# EAGLE library part RASPBERRY-PI-MODEL-B (library raspberry-pi)
Raspberry Pi Model B
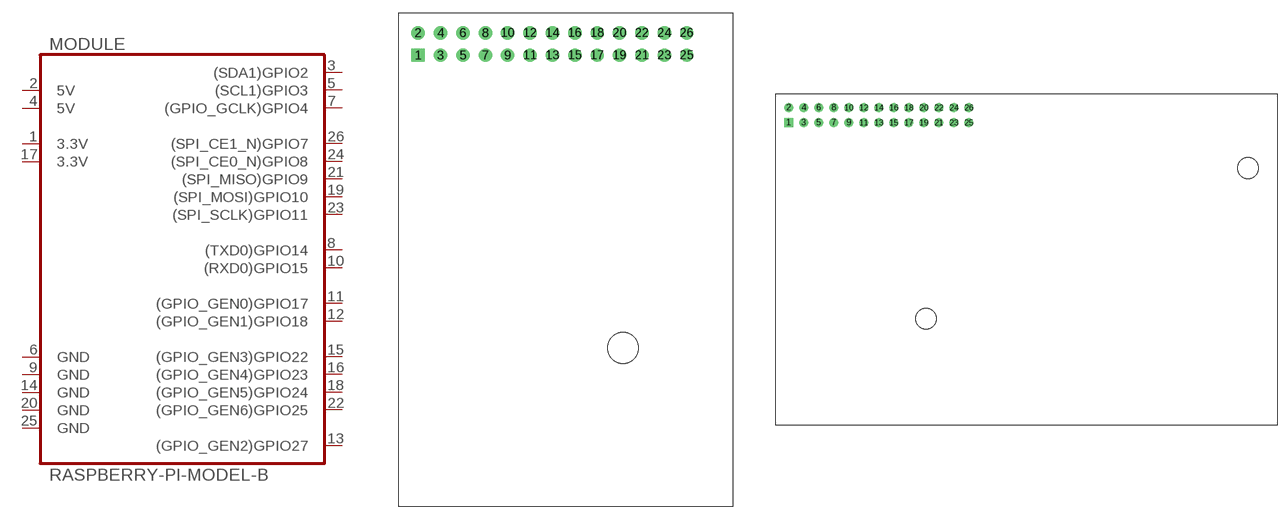
[diagram p0: symbol with the pads of RASPBERRY-PI-MODEL-B-SHORT; footprints RASPBERRY-PI-MODEL-B-SHORT, RASPBERRY-PI-MODEL-B-FULL]

Designator prefix MODULE

## RASPBERRY-PI-MODEL-B-SHORT  [RASPBERRY-PI-MODEL-B-SHORT]
1  3.3V  pas
2  5V  pas
3  (SDA1)GPIO2  pas
4  5V  pas
5  (SCL1)GPIO3  pas
6  GND  pas
7  (GPIO_GCLK)GPIO4  pas
8  (TXD0)GPIO14  pas
9  GND  pas
10  (RXD0)GPIO15  pas
11  (GPIO_GEN0)GPIO17  pas
12  (GPIO_GEN1)GPIO18  pas
13  (GPIO_GEN2)GPIO27  pas
14  GND  pas
15  (GPIO_GEN3)GPIO22  pas
16  (GPIO_GEN4)GPIO23  pas
17  3.3V  pas
18  (GPIO_GEN5)GPIO24  pas
19  (SPI_MOSI)GPIO10  pas
20  GND  pas
21  (SPI_MISO)GPIO9  pas
22  (GPIO_GEN6)GPIO25  pas
23  (SPI_SCLK)GPIO11  pas
24  (SPI_CE0_N)GPIO8  pas
25  GND  pas
26  (SPI_CE1_N)GPIO7  pas

## RASPBERRY-PI-MODEL-B-FULL  [RASPBERRY-PI-MODEL-B-FULL]
Pads as for RASPBERRY-PI-MODEL-B-SHORT

## RASPBERRY-PI-MODEL-B-PINHEADER  [RASPBERRY-PI-MODEL-B-PINHEADER]
Pads as for RASPBERRY-PI-MODEL-B-SHORT

## RASPBERRY-PI-MODEL-B-PINHEADER/90  [RASPBERRY-PI-MODEL-B-PINHEADER/90]
Pads as for RASPBERRY-PI-MODEL-B-SHORT

## Footprint RASPBERRY-PI-MODEL-B-SHORT (pad centres in mm)
drill 1.016 square: 1 2.26,51.23
drill 1.016: 2 2.26,53.77; 3 4.8,51.23; 4 4.8,53.77; 5 7.34,51.23; 6 7.34,53.77; 7 9.88,51.23; 8 9.88,53.77; 9 12.42,51.23; 10 12.42,53.77; 11 14.96,51.23; 12 14.96,53.77; 13 17.5,51.23; 14 17.5,53.77; 15 20.04,51.23; 16 20.04,53.77; 17 22.58,51.23; 18 22.58,53.77; 19 25.12,51.23; 20 25.12,53.77; 21 27.66,51.23; 22 27.66,53.77; 23 30.2,51.23; 24 30.2,53.77; 25 32.74,51.23; 26 32.74,53.77
hole 3.5 at 25.5,18

## Footprint RASPBERRY-PI-MODEL-B-FULL (pad centres in mm)
drill 1.016 square: 1 2.26,51.23
drill 1.016: 2 2.26,53.77; 3 4.8,51.23; 4 4.8,53.77; 5 7.34,51.23; 6 7.34,53.77; 7 9.88,51.23; 8 9.88,53.77; 9 12.42,51.23; 10 12.42,53.77; 11 14.96,51.23; 12 14.96,53.77; 13 17.5,51.23; 14 17.5,53.77; 15 20.04,51.23; 16 20.04,53.77; 17 22.58,51.23; 18 22.58,53.77; 19 25.12,51.23; 20 25.12,53.77; 21 27.66,51.23; 22 27.66,53.77; 23 30.2,51.23; 24 30.2,53.77; 25 32.74,51.23; 26 32.74,53.77
hole 3.5 at 25.5,18
hole 3.5 at 80,43.5

## Footprint RASPBERRY-PI-MODEL-B-PINHEADER (pad centres in mm)
drill 1.016 octagon: 1 -15.24,-1.27; 2 -15.24,1.27; 3 -12.7,-1.27; 4 -12.7,1.27; 5 -10.16,-1.27; 6 -10.16,1.27; 7 -7.62,-1.27; 8 -7.62,1.27; 9 -5.08,-1.27; 10 -5.08,1.27; 11 -2.54,-1.27; 12 -2.54,1.27; 13 0,-1.27; 14 0,1.27; 15 2.54,-1.27; 16 2.54,1.27; 17 5.08,-1.27; 18 5.08,1.27; 19 7.62,-1.27; 20 7.62,1.27; 21 10.16,-1.27; 22 10.16,1.27; 23 12.7,-1.27; 24 12.7,1.27; 25 15.24,-1.27; 26 15.24,1.27

## Footprint RASPBERRY-PI-MODEL-B-PINHEADER/90 (pad centres in mm)
drill 1.016 octagon: 1 -15.24,-6.35; 2 -15.24,-3.81; 3 -12.7,-6.35; 4 -12.7,-3.81; 5 -10.16,-6.35; 6 -10.16,-3.81; 7 -7.62,-6.35; 8 -7.62,-3.81; 9 -5.08,-6.35; 10 -5.08,-3.81; 11 -2.54,-6.35; 12 -2.54,-3.81; 13 0,-6.35; 14 0,-3.81; 15 2.54,-6.35; 16 2.54,-3.81; 17 5.08,-6.35; 18 5.08,-3.81; 19 7.62,-6.35; 20 7.62,-3.81; 21 10.16,-6.35; 22 10.16,-3.81; 23 12.7,-6.35; 24 12.7,-3.81; 25 15.24,-6.35; 26 15.24,-3.81